# Altium schematic symbol library SoldeerStation.SchLib: 38 symbols
Pins are listed as number, name and electrical type; pins without a type are passive.

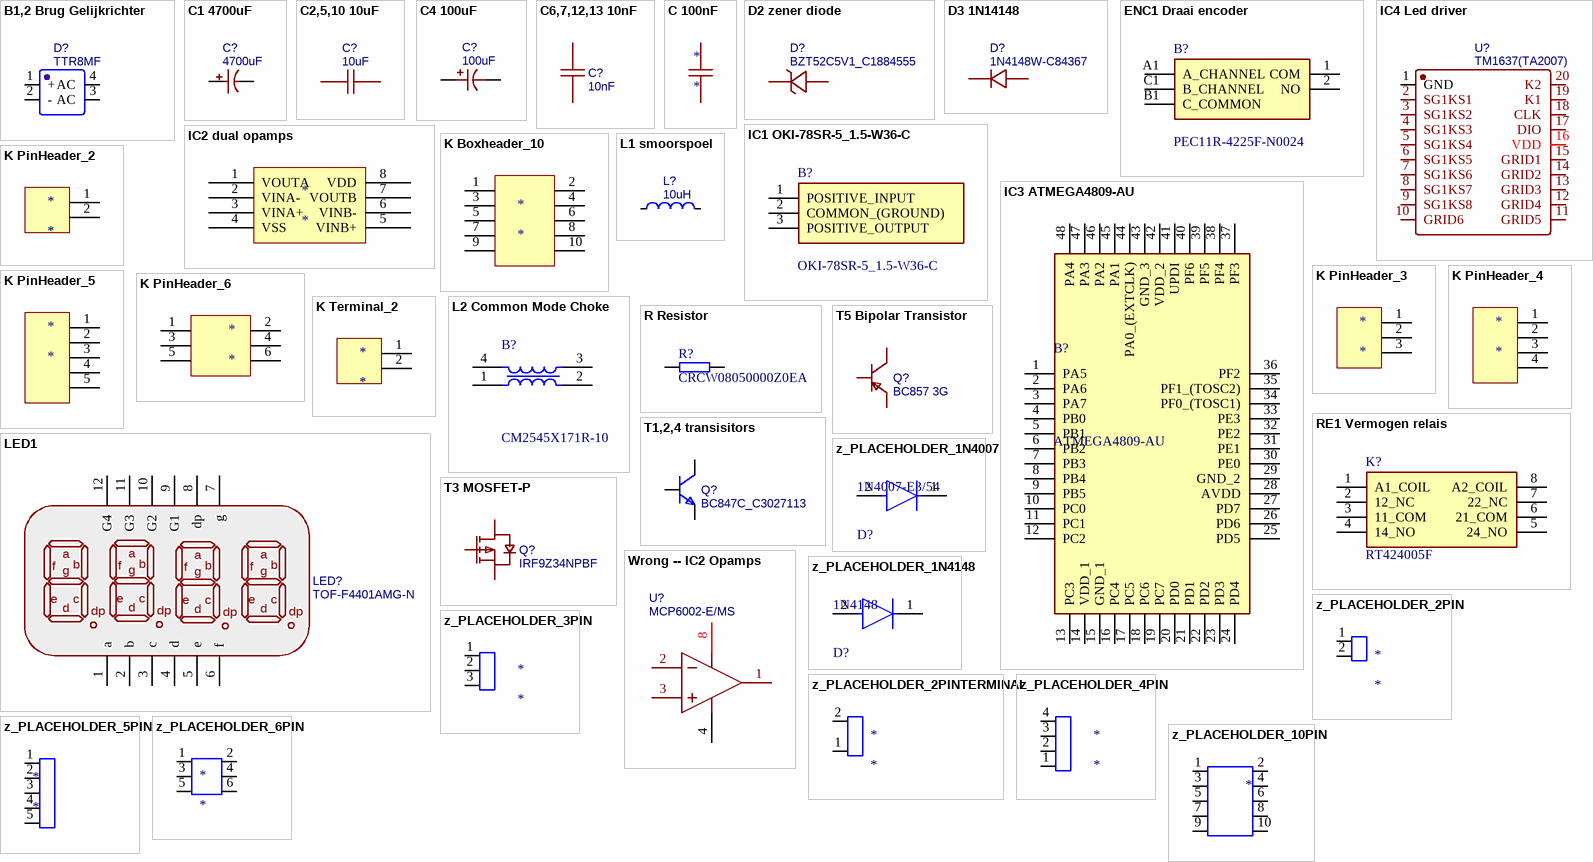
[diagram p0: symbols B1,2 Brug Gelijkrichter to z_PLACEHOLDER_10PIN]

## B1,2 Brug Gelijkrichter
designator D?, comment TTR8MF
BOM_Manufacturer: MDD; Contributor: LCSC; BOM_Supplier: LCSC; BOM_Supplier Part: C712546; BOM_Manufacturer Part: TTR8MF; BOM_JLCPCB Part Class: Extended Part; spicePre: D; spiceSymbolName: TTR8MF
footprint B1,2 Brug gelijkrichter
pins: 1 +, 2 -, 3 AC, 4 AC

## C1 4700uF
designator C?, comment 4700uF
BOM_Manufacturer: CX(承兴); BOM_Manufacturer Part: KM478M050N35RR0VH2FP0; nameAlias: Capacitance; BOM_Supplier: LCSC; BOM_Supplier Part: C45662; BOM_JLCPCB Part Class: Extended Part; spicePre: C; spiceSymbolName: 4700uF 50V 22*35
footprint C1 4700uF (CAP-TH_BD22.0-P10.00-D2.3-FD)
pins: 1, 2

## C2,5,10 10uF
designator C?, comment 10uF
BOM_Manufacturer: muRata(村田); BOM_Manufacturer Part: GRM21BR61H106KE43L; nameAlias: Capacitance; Contributor: LCSC; BOM_Supplier: LCSC; BOM_Supplier Part: C440198; BOM_JLCPCB Part Class: Basic Part; spicePre: C; spiceSymbolName: GRM21BR61H106KE43L
footprint C2,5,10 10uF (C0805)
pins: 1, 2

## C4 100uF
designator C?, comment 100uF
BOM_Manufacturer: Nichicon(尼吉康); BOM_Manufacturer Part: UWT1H101MNL1GS; Contributor: LCSC; nameAlias: Capacitance; BOM_Supplier: LCSC; BOM_Supplier Part: C445063; BOM_JLCPCB Part Class: Extended Part; spicePre: C; spiceSymbolName: UWT1H101MNL1GS
footprint C4 100uF
pins: 1, 2

## C6,7,12,13 10nF
designator C?, comment 10nF
BOM_Manufacturer: CCTC(三环); BOM_Manufacturer Part: TCC0805X7R103M500DT; nameAlias: Capacitance; Contributor: LCSC; BOM_Supplier: LCSC; BOM_Supplier Part: C376921; BOM_JLCPCB Part Class: Extended Part; spicePre: C; spiceSymbolName: TCC0805X7R103M500DT
footprint C6,7,12,13 10nF (C0805)
pins: 1, 2

## C 100nF
designator *
footprint C6,7,12,13 10nF (C0805)
pins: 1, 2

## D2 zener diode
designator D?, comment BZT52C5V1_C1884555
BOM_Manufacturer: YFW(佑风微); Contributor: LCSC; BOM_Supplier: LCSC; BOM_Supplier Part: C1884555; BOM_Manufacturer Part: BZT52C5V1; BOM_JLCPCB Part Class: Extended Part; spicePre: D; spiceSymbolName: BZT52C5V1_C1884555
footprint D2 zener diode (SOD-123_L2.7-W1.7-LS3.8-RD)
pins: 1 K, 2 A

## D3 1N14148
designator D?, comment 1N4148W-C84367
BOM_Manufacturer: MDD; BOM_Supplier: LCSC; BOM_Manufacturer Part: 1N4148W; BOM_Supplier Part: C84367; BOM_JLCPCB Part Class: Extended Part; spicePre: D; spiceSymbolName: 1N4148W-C84367
footprint D3 1N14148 (SOD-123_L2.8-W1.8-LS3.7-RD)
pins: 1 C, 2 A

## ENC1 Draai encoder
designator B?, comment PEC11R-4225F-N0024
PEC11R-4225F-N0024Mechanical Encoder Rotary Incremental Flat 0.007N.m Straight Quadrature Digital Square Wave 24PPR Through Hole PC Pin; Manufacturer_Name: Bourns; Geometry.Height: 31.5mm; Mouser Part Number: 652-PEC11R-4225F-N24; Mouser Price/Stock: https://www.mouser.co.uk/ProductDetail/Bourns/PEC11R-4225F-N0024?qs=Zq5ylnUbLm6NTsWtgy%252B2Zg%3D%3D; Manufacturer_Part_Number: PEC11R-4225F-N0024; Datasheet Link: https://www.bourns.com/docs/Product-Datasheets/PEC11R.pdf
footprint ENC1 draai encoder (PEC11R4225FN0024)
pins: 1 COM, 2 NO, A1 A_CHANNEL, B1 C_COMMON, C1 B_CHANNEL

## IC1 OKI-78SR-5_1.5-W36-C
designator B?, comment OKI-78SR-5_1.5-W36-C
Non-Isolated DC/DC Converters 7.5W 24Vin 5Vout1 1.5A SIP Non-Iso; Manufacturer_Name: Murata Electronics; Manufacturer_Part_Number: OKI-78SR-5/1.5-W36-C; Geometry.Height: 16.5mm; Mouser Part Number: 580-OKI78SR5/1.5W36C; Mouser Price/Stock: https://www.mouser.co.uk/ProductDetail/Murata-Power-Solutions/OKI-78SR-5-1.5-W36-C?qs=uJpRT2lXVNXJP%252Bo08dQqJQ%3D%3D; Datasheet Link: https://www.murata.com/products/productdata/8807037992990/oki-78sr.pdf?1583754815000
footprint IC1 DC-DC converter (OKI78SR515W36C)
pins: 1 POSITIVE_INPUT, 2 COMMON_(GROUND), 3 POSITIVE_OUTPUT

## IC2 dual opamps
designator *
footprint IC2 opamps (MSOP-8_L3.0-W3.0-P0.65-LS4.9-BL MCP6002-E/MS)
pins: 1 VOUTA, 2 VINA-, 3 VINA+, 4 VSS, 5 VINB+, 6 VINB-, 7 VOUTB, 8 VDD

## IC3 ATMEGA4809-AU
designator B?, comment ATMEGA4809-AU
8-bit Microcontrollers - MCU 20MHz, 48KB, TQFP; Manufacturer_Name: Microchip; Geometry.Height: 1.2mm; Mouser Part Number: 556-ATMEGA4809-AU; Mouser Price/Stock: https://www.mouser.co.uk/ProductDetail/Microchip-Technology-Atmel/ATMEGA4809-AU?qs=P1JMDcb91o4zLIorxO9tIg%3D%3D; Manufacturer_Part_Number: ATMEGA4809-AU; Datasheet Link: *
footprint IC3 ATMEGA4809-AU (QFP50P900X900X120-48N)
pins: 1 PA5, 2 PA6, 3 PA7, 4 PB0, 5 PB1, 6 PB2, 7 PB3, 8 PB4, 9 PB5, 10 PC0, 11 PC1, 12 PC2, 13 PC3, 14 VDD_1, 15 GND_1, 16 PC4, 17 PC5, 18 PC6, 19 PC7, 20 PD0, 21 PD1, 22 PD2, 23 PD3, 24 PD4, 25 PD5, 26 PD6, 27 PD7, 28 AVDD, 29 GND_2, 30 PE0, 31 PE1, 32 PE2, 33 PE3, 34 PF0_(TOSC1), 35 PF1_(TOSC2), 36 PF2, 37 PF3, 38 PF4, 39 PF5, 40 PF6, 41 UPDI, 42 VDD_2, 43 GND_3, 44 PA0_(EXTCLK), 45 PA1, 46 PA2, 47 PA3, 48 PA4

## IC4 Led driver
designator U?, comment TM1637(TA2007)
BOM_Manufacturer: TM(天微); Contributor: lcsc; BOM_Supplier: LCSC; BOM_Supplier Part: C5337160; BOM_Manufacturer Part: TM1637(TA2007); BOM_JLCPCB Part Class: Extended Part; spicePre: U; spiceSymbolName: TM1637(TA2007)
footprint IC4 Led driver (SOP-20_L12.8-W7.5-P1.27-LS10.4-BL)
pins: 1 GND, 2 SG1KS1, 3 SG1KS2, 4 SG1KS3, 5 SG1KS4, 6 SG1KS5, 7 SG1KS6, 8 SG1KS7, 9 SG1KS8, 10 GRID6, 11 GRID5, 12 GRID4, 13 GRID3, 14 GRID2, 15 GRID1, 16 VDD, 17 DIO, 18 CLK, 19 K1, 20 K2

## K Boxheader_10
designator *
footprint BOxHeader_10
pins: 1, 2, 3, 4, 5, 6, 7, 8, 9, 10

## K PinHeader_2
designator *
footprint PInHeader_2
pins: 1, 2

## K PinHeader_3
designator *
footprint PInHeader_3
pins: 1, 2, 3

## K PinHeader_4
designator *
footprint PInHeader_4
pins: 1, 2, 3, 4

## K PinHeader_5
designator *
footprint PInHeader_5
pins: 1, 2, 3, 4, 5

## K PinHeader_6
designator *
footprint PInHeader_6
pins: 1, 2, 3, 4, 5, 6

## K Terminal_2
designator *
footprint Terminal_2
pins: 1, 2

## L1 smoorspoel
designator L?, comment 10uH
BOM_Manufacturer: KOHERelec(科或); BOM_Manufacturer Part: PMI201214S-100M; nameAlias: Inductance; Contributor: LCSC; BOM_Supplier: LCSC; BOM_Supplier Part: C2922559; BOM_JLCPCB Part Class: Extended Part; spicePre: L; spiceSymbolName: PMI201214S-100M
footprint L2 SmoorSpoel
pins: 1, 2

## L2 Common Mode Choke
designator B?, comment CM2545X171R-10
Common Mode Chokes / Filters 170ohms 100MHz 10A 1 Choke SMD; Manufacturer_Name: Laird Performance Materials; Geometry.Height: 9.5mm; Mouser Part Number: 875-CM2545X171R-10; Mouser Price/Stock: https://www.mouser.co.uk/ProductDetail/Laird-Performance-Materials/CM2545X171R-10?qs=gHrF1kHvtHWa9UjYzLX7bQ%3D%3D; Manufacturer_Part_Number: CM2545X171R-10; Datasheet Link: https://componentsearchengine.com/Datasheets/1/CM2545X171R-10.pdf
footprint L1 Smoorspoel
pins: 1, 2, 3, 4

## LED1
designator LED?, comment TOF-F4401AMG-N
BOM_Manufacturer: OASIS(李洲); Contributor: LCSC; BOM_Supplier: LCSC; BOM_Supplier Part: C325426; BOM_Manufacturer Part: TOF-F4401AMG-N; BOM_JLCPCB Part Class: Extended Part; spicePre: L; spiceSymbolName: TOF-F4401AMG-N
footprint LED1 (LED-SEG-SMD_12P-L38.9-W15.0-P1.88-BL)
pins: 1 a, 2 b, 3 c, 4 d, 5 e, 6 f, 7 g, 8 dp, 9 G1, 10 G2, 11 G3, 12 G4

## R Resistor
designator R?, comment CRCW08050000Z0EA
Manufacturer: Vishay Dale; Part Number: CRCW08050000Z0EA
footprint RESC2013X50X30ML20T20 (Chip Resistor, 2-Leads, Body 2.00x1.25mm, IPC Low Density)
footprint RESC2013X50X30NL20T20 (Chip Resistor, 2-Leads, Body 2.00x1.25mm, IPC Medium Density)
footprint RESC2013X50X30LL20T20 (Chip Resistor, 2-Leads, Body 2.00x1.25mm, IPC High Density)
pins: 1, 2
1 alternate drawing of the same symbol

## RE1 Vermogen relais
designator K?, comment RT424005F
RT424005F  General Purpose Relays DPDT 8A 5VDC GEN PURPOSE RELAY; Manufacturer_Name: TE Connectivity; Mouser Part Number: 655-RT424005F; Mouser Price/Stock: https://www.mouser.co.uk/ProductDetail/TE-Connectivity-PB/RT424005F?qs=8wHch9UpSvaH%252B%252BmsSCbj0Q%3D%3D; Manufacturer_Part_Number: RT424005F; Datasheet Link: https://datasheet.datasheetarchive.com/originals/distributors/Datasheets_SAMA/2ef22a7a34dcc6453ddb52063c55ccaa.pdf
footprint RE1 Vermogen relais (RT42)
pins: 1 A1_COIL, 2 12_NC, 3 11_COM, 4 14_NO, 5 24_NO, 6 21_COM, 7 22_NC, 8 A2_COIL

## T1,2,4 transisitors
designator Q?, comment BC847C_C3027113
BOM_Manufacturer: SALLTECH(萨瑞); BOM_Manufacturer Part: BC847C; Contributor: lcsc; BOM_Supplier: LCSC; BOM_Supplier Part: C3027113; link: https://atta.szlcsc.com/upload/public/pdf/source/20220824/287706FC7904CA05889B348536529CCD.pdf; BOM_JLCPCB Part Class: Extended Part; spicePre: Q; spiceSymbolName: BC847C_C3027113
footprint T1,2,4 Bipolar Transistors (BC847C)
pins: 1 B, 2 E, 3 C

## T3 MOSFET-P
designator Q?, comment IRF9Z34NPBF
BOM_Manufacturer: Infineon(英飞凌); Contributor: LCSC; BOM_Supplier: LCSC; BOM_Supplier Part: C500523; BOM_Manufacturer Part: IRF9Z34NPBF; BOM_JLCPCB Part Class: Extended Part; spicePre: Q; spiceSymbolName: IRF9Z34NPBF
footprint T3 MOSFET-P (TO-220-3_L10.0-W4.5-P2.54-L)
pins: 1 G, 2 D, 3 S

## T5 Bipolar Transistor
designator Q?, comment BC857 3G
BOM_Manufacturer: CJ(江苏长电/长晶); BOM_Supplier: LCSC; BOM_Manufacturer Part: BC857; BOM_Supplier Part: C2139; BOM_JLCPCB Part Class: Extended Part; spicePre: Q; spiceSymbolName: BC857 3G
footprint T5 Bipolar Transistors (SOT-23-3_L2.9-W1.6-P1.90-LS2.8-BR)
pins: 1, 2, 3

## Wrong -- IC2 Opamps
designator U?, comment MCP6002-E/MS
BOM_Manufacturer: MICROCHIP(美国微芯); subpart_no: 1; BOM_Supplier: LCSC; BOM_Supplier Part: C636234; BOM_Manufacturer Part: MCP6002-E/MS; link: https://atta.szlcsc.comnull; spicePre: U; spiceSymbolName: MCP6002-E/MS
footprint IC2 opamps (MSOP-8_L3.0-W3.0-P0.65-LS4.9-BL MCP6002-E/MS)
pins: 1 VOUTA, 2 VINA-, 3 VINA+, 4 VSS, 8 VDD

## z_PLACEHOLDER_1N4007
designator D?, comment 1N4007-E3/54
DIODE GEN PURP 1KV 1A DO204AL; Manufacturer: Vishay; Value: 15pF; Max Junction Temp: +150°C; Max Surge Forward Current: 30A; Max Repetitive Reverse Voltage: 1000V; Peak Reverse Current: 30uA; Octopart: https://octopart.com/1n4007-e3%2F54-vishay-39548207; Digikey Description: DIODE GEN PURP 1KV 1A DO204AL; Category: Diode; Mouser Description: Rectifiers Vr/1000V Io/1A; Automotive: No; Package: 1N4007; Device Class L3: Rectifier Diodes; Temperature Range High: +150°C; Capacitance: 15pF; Ipc Land Pattern Name: DIOPA1088W105L520D270; Lead Free: Yes; ComponentLink2Description: Datasheet; Forward Current: 1A; Device Class L1: Discrete Semiconductors; ComponentLink2URL: http://www.vishay.com/docs/88503/1n4001.pdf; Temperature Range Low: -50°C; Height: 2.7mm; RoHS: TRUE; Temperature: -50°C to +150°C; Device Class L2: Diodes; Manufacturer Part Number: 1N4007-E3/54
footprint FP-1N4007-MFG
footprint FP-1N4007-MFG
pins: 1 C, 2 A

## z_PLACEHOLDER_1N4148
designator D?, comment 1N4148
DIODE GEN PURP 100V 200MA DO35; Forward Voltage: 1V; Max Power Dissipation: 500mW; Max Reverse Current: 5uA; Forward Current: 300mA; Current: 4A; Reverse Recovery Time: 4ns; Element Configuration: Single; Outside Diameter: 1.85mm; Capacitance: 4pF; Polarity: Standard; Max Forward Surge Current (Ifsm): 1A; Reverse Voltage: 100V; Output Current: 200mA; Average Rectified Current: 200mA; Diameter: 1.91mm; Max Repetitive Reverse Voltage (Vrrm): 100V; Current Rating: 200mA; Case/Package: DO-35; Lead Free: Lead Free; Number of Pins: 2; Recovery Time: 4ns; Packaging: Bulk; Contact Plating: Tin; Voltage: 100V; Mount: Through Hole; Max Surge Current: 4A; Package Quantity: 2000; Width: 1.91mm; Max Reverse Voltage (DC): 100V; Length: 4.56mm; Radiation Hardening: No; Power Dissipation: 500mW; Voltage Rating (DC): 100V; Peak Non-Repetitive Surge Current: 4A; REACH SVHC: No SVHC; Height: 4.56mm; Max Operating Temperature: 175°C; Series: -; Weight: 0.01lb; Min Operating Temperature: -65°C
footprint FP-017AG-MFG
pins: 1 C, 2 A

## z_PLACEHOLDER_2PIN
designator *
pins: 1, 2

## z_PLACEHOLDER_2PINTERMINAL
designator *
pins: 1, 2

## z_PLACEHOLDER_3PIN
designator *
pins: 1, 2, 3

## z_PLACEHOLDER_4PIN
designator *
pins: 1, 2, 3, 4

## z_PLACEHOLDER_5PIN
designator *
pins: 1, 2, 3, 4, 5

## z_PLACEHOLDER_6PIN
designator *
pins: 1, 2, 3, 4, 5, 6

## z_PLACEHOLDER_10PIN
designator *  (value not drawn)
pins: 1, 2, 3, 4, 5, 6, 7, 8, 9, 10